# Altium schematic symbol library Resistor_Array_4X.Schlib: 1 symbol
Pins are listed as number, name and electrical type; pins without a type are passive.

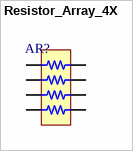
[diagram p0: symbol Resistor_Array_4X]

## Resistor_Array_4X
designator AR?
Array Resistor
pins: 1, 2, 3, 4, 5, 6, 7, 8